# Altium schematic symbol library VBlib_Displays.SchLib: 3 symbols
Pins are listed as number, name and electrical type; pins without a type are passive.

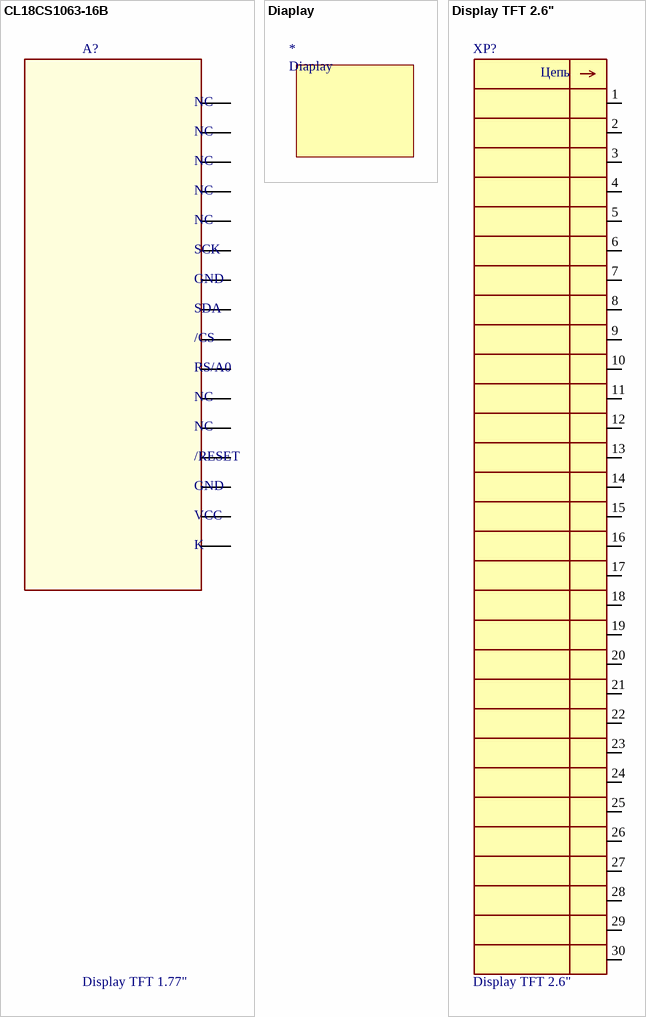
[diagram p0: symbols CL18CS1063-16B to Display TFT 2.6"]

## CL18CS1063-16B
designator A?, comment Display TFT 1.77"
DISPLAY, TFT 1.77" with 16-pin 0.5mm connector
text: NC; SCK; GND; SDA; /CS; RS/A0; /RESET; VCC; K

## Diaplay
designator *

## Display TFT 2.6"
designator XP?
DISPLAY, TFT 2.6" (CHINA)
pins: 1, 2, 3, 4, 5, 6, 7, 8, 9, 10, 11, 12, 13, 14, 15, 16, 17, 18, 19, 20, 21, 22, 23, 24, 25, 26, 27, 28, 29, 30
text: Цепь